# Altium integrated library switch.IntLib: 1 symbol
Pins are listed as number, name and electrical type; pins without a type are passive.

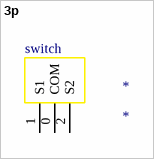
[diagram p0: symbol 3p]

## 3p
designator *
footprint 3p
pins: 0 COM, 1 S1, 2 S2
text: switch